# Altium schematic symbol library MAX232Lib.SchLib: 2 symbols
Pins are listed as number, name and electrical type; pins without a type are passive.

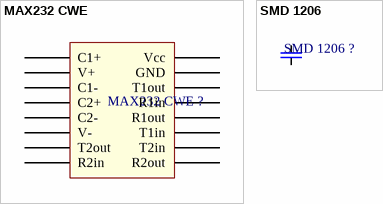
[diagram p0: symbols MAX232 CWE to SMD 1206]

## MAX232 CWE
designator MAX232 CWE ?  (value not drawn)
pins: 1 C1+, 2 V+, 3 C1-, 4 C2+, 5 C2-, 6 V-, 7 T2out, 8 R2in, 9 R2out, 10 T2in, 11 T1in, 12 R1out, 13 R1in, 14 T1out, 15 GND, 16 Vcc

## SMD 1206
designator SMD 1206 ?  (value not drawn)
SMD 1206 Package Type
pins: 1, 2